# Altium footprint library PCB - MICROCONTROLLER - ESP01.PCBLIB: 1 footprints
Each footprint in its own frame and in the unit in brackets; x right, y up, seen from the top. Pads: shape width x height; smd on the part's side, far side on the other; paste and mask are expansions set on the pad; w line width, h text height; cw(c..) or ccw(c..) is an arc to the next point about the centre after c.
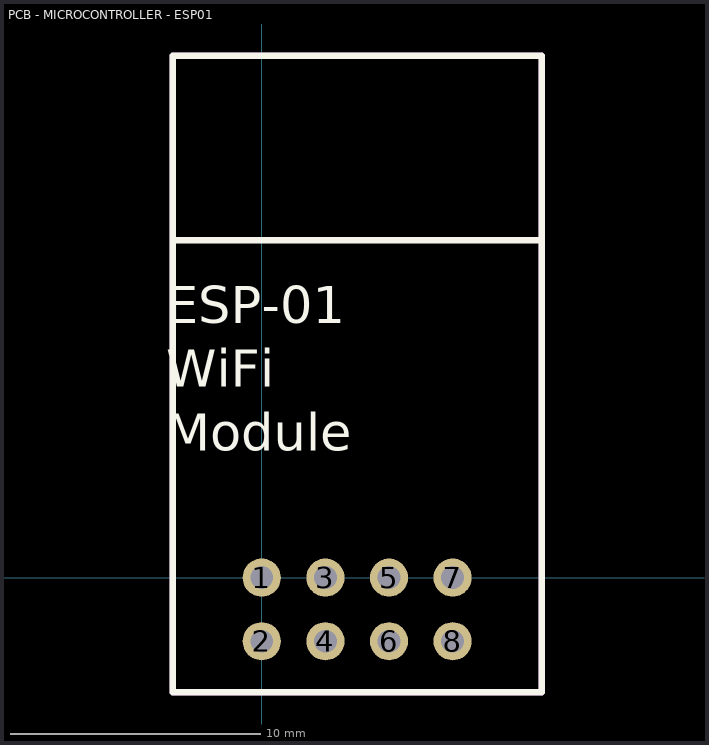
[diagram p0: the footprint, top view; thin cyan lines are the x and y axes]

## PCB - MICROCONTROLLER - ESP01 [mil] "ESP-01 WiFi Module"
pads (8):
  round 60 hole 36: 1(0,0) 2(0,-100) 3(100,0) 4(100,-100) 5(200,0) 6(200,-100) 7(300,0) 8(300,-100)
Top Overlay:
  lines w10: -140,530 440,530 ; -140,-180 440,-180 440,820 -140,820 -140,-180
  text "ESP-01 / WiFi / Module" at -150,180 h100
Mechanical 1:
  lines w10: -140,-180 440,-180 440,820 -140,820 -140,-180
3D body "ESP8266_ESP01_cp.step": height 228.35, standoff -177.17, extent -137.8,-174.8 433.07,809.45